# EAGLE library part AD529* (library Analog Devices)
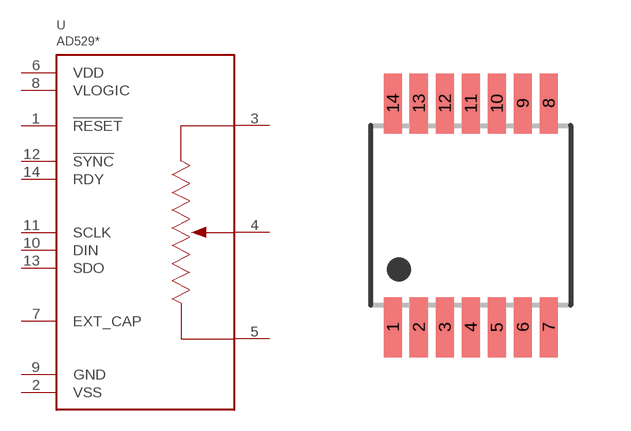
[diagram p27: symbol with the pads of TSSOP14; footprint TSSOP14]

Designator prefix U

## AD5291-100, AD5291-20, AD5291-50, AD5292-100, AD5292-20, AD5292-50  [TSSOP14]
1  !RESET
2  VSS
3  A
4  W
5  B
6  VDD
7  EXT_CAP
8  VLOGIC
9  GND
10  DIN
11  SCLK
12  !SYNC
13  SDO
14  RDY

## Footprint TSSOP14 (pad centres in mm)
smd 0.45 x 1.5: 1 -1.95,-2.8; 2 -1.3,-2.8; 3 -0.65,-2.8; 4 0,-2.8; 5 0.65,-2.8; 6 1.3,-2.8; 7 1.95,-2.8; 8 1.95,2.8; 9 1.3,2.8; 10 0.65,2.796; 11 0,2.796; 12 -0.65,2.8; 13 -1.3,2.8; 14 -1.95,2.8